# Altium integrated library BUCK_Converter.IntLib: 14 symbols
Pins are listed as number, name and electrical type; pins without a type are passive.

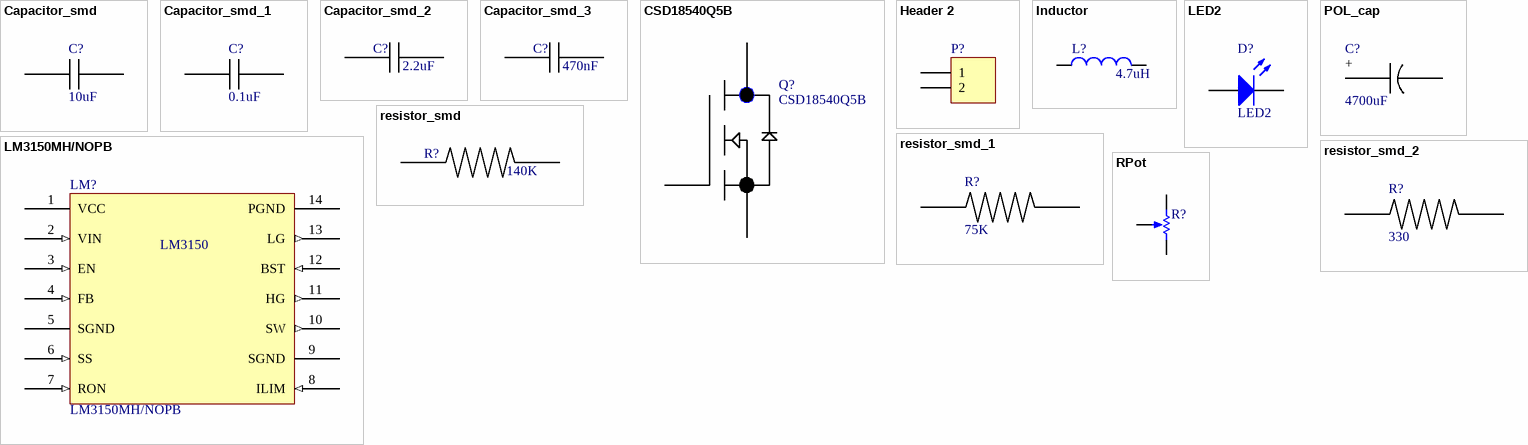
[diagram p0: symbols Capacitor_smd to RPot]

## Capacitor_smd
designator C?, comment 10uF
manufacturer part number: C1206X106J4RACAUTO
footprint 0402_cap
footprint 0603_cap
footprint 1206_cap
footprint 0805_cap
pins: 1 +, 2 -

## Capacitor_smd_1
designator C?, comment 0.1uF
manufacturer part number: C1206C104K2REC7800
footprint 0402_cap
footprint 0603_cap
footprint 1206_cap
footprint 0805_cap
pins: 1 +, 2 -

## Capacitor_smd_2
designator C?, comment 2.2uF
manufacturer part number: C1206X225K4RACAUTO
footprint 0402_cap
footprint 0603_cap
footprint 1206_cap
footprint 0805_cap
pins: 1 +, 2 -

## Capacitor_smd_3
designator C?, comment 470nF
manufacturer part number: C1206C474K1REC7210
footprint 0402_cap
footprint 0603_cap
footprint 1206_cap
footprint 0805_cap
pins: 1 +, 2 -

## CSD18540Q5B
designator Q?
manufacturer part number: CSD18540Q5B
footprint CSD18540Q5B
pins: 1, 2, 3

## Header 2
designator P?  (value not drawn)
Header, 2-Pin; LatestRevisionDate: 17-Jul-2002; LatestRevisionNote: Re-released for DXP Platform.; Publisher: Altium Limited
footprint HDR1X2 (Connector; Header; 2 Position)
signal-integrity model Connector
pins: 1, 2

## Inductor
designator L?  value 4.7uH  (hidden comment: Inductor)
Code_IEC: 1005; Published: 8-Jun-2000; LatestRevisionDate: 29-May-2009; LatestRevisionNote: IPC-7351 Footprint Added.; PackageReference: 0402-A; Publisher: Altium Limited; PackageDescription: Chip Inductor; Code_JEITA: 0402
footprint 0402-A (Chip Inductor, Body 1.0x0.5mm, IPC High Density)
footprint INDC1608L (Chip Inductor, Body 1.6x0.8mm, IPC High Density)
footprint 2029 (Chip Inductor, Body 2.0x1.2mm, IPC High Density)
footprint 0603 (Chip Inductor, Body 0.6x0.3mm, IPC High Density)
footprint INDC3216 (Chip Inductor, Body 3.2x1.6mm, IPC High Density)
footprint INDC4532 (Chip Inductor, Body 4.5x3.2mm, IPC High Density)
simulation model INDUCTOR (Inductor)
signal-integrity model Inductor
pins: 1, 2

## LED2
designator D?
Typical RED, GREEN, YELLOW, AMBER GaAs LED; Published: 8-Jun-2000; LatestRevisionDate: 17-Jul-2002; LatestRevisionNote: Re-released for DXP Platform.; PackageVersion: Feb-2002; PackageReference: 3.2X1.6X1.1; Publisher: Altium Limited; PackageDescription: SM LED; 2 Flat Leads
footprint 3.2X1.6X1.1 (SMT LED; 2 Flat Leads)
simulation model LED2 (Diode)
pins: 1 A, 2 K

## LM3150MH/NOPB
designator LM?
manufacturer part number: LM3150MH/NOPB
footprint LM3150MH/NOPB
pins: 1 VCC (power), 2 VIN (in), 3 EN (in), 4 FB (in), 5 SGND, 6 SS (in), 7 RON (in), 8 ILIM (in), 9 SGND, 10 SW (out), 11 HG (out), 12 BST (in), 13 LG (out), 14 PGND
text: LM3150

## POL_cap
designator C?, comment 4700uF
manufacturer part number: ESK478M025AN2AA
footprint pol_cap
pins: 1 +, 2 -

## resistor_smd
designator R?, comment 140K
manufacturer part number: CRCW1206140KFKEA
footprint 805_res
footprint 0402_res
footprint 0603_res
footprint 1206_res
pins: 1, 2

## resistor_smd_1
designator R?, comment 75K
manufacturer part number: CRCW120670KFKEA
footprint 805_res
footprint 0402_res
footprint 0603_res
footprint 1206_res
pins: 1, 2

## resistor_smd_2
designator R?, comment 330
manufacturer part number: CRCW1206330RFKEAC
footprint 805_res
footprint 0402_res
footprint 0603_res
footprint 1206_res
pins: 1, 2

## RPot
designator R?  (value not drawn)
Potentiometer; Sim Note: Enter the Resistance value and the set point into parameter fields.; Set Position: 0.5; Published: 8-Jun-2000; LatestRevisionDate: 17-Jul-2002; LatestRevisionNote: Re-released for DXP Platform.; PackageReference: VR5; Publisher: Altium Limited; PackageDescription: Variable Resistor, Thru-Hole; 3 Leads
footprint VR5 (Thru-Hole; 3 Leads)
simulation model POT (Potentiometer)
pins: 1 TOP, 2 BOT, 3 TAP
1 alternate drawing of the same symbol